# EAGLE library part LPC55S14JBD64E (library LPC55S14JBD64E)
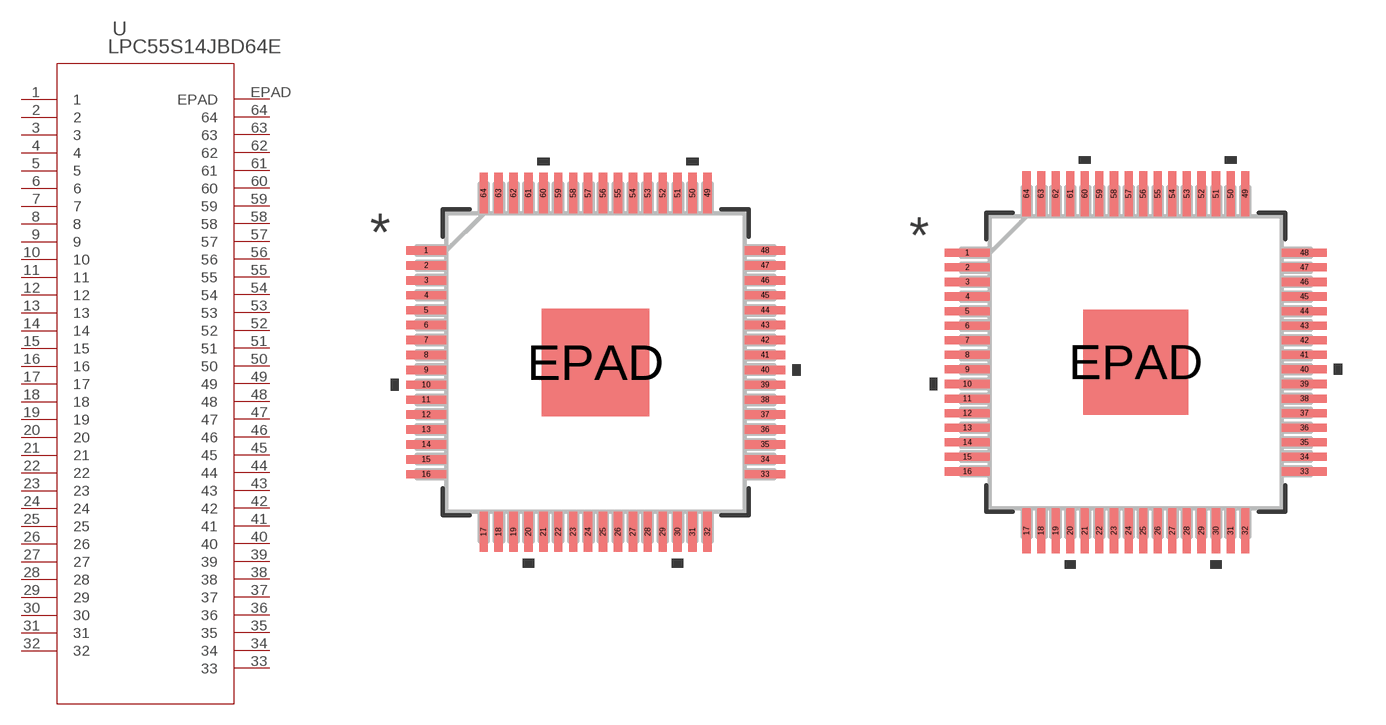
[diagram p0: symbol with the pads of HTQFP64_10X10_NXP; footprints HTQFP64_10X10_NXP, HTQFP64_10X10_NXP-M]

Designator prefix U

## LPC55S14JBD64E (COPYRIGHT: Copyright (C) 2021 Ultra Librarian. All rights reserved.; MANUFACTURER_PART_NUMBER: LPC55S14JBD64E; MFR_NAME: NXP)  [HTQFP64_10X10_NXP]
1  1  pas
2  2  pas
3  3  pas
4  4  pas
5  5  pas
6  6  pas
7  7  pas
8  8  pas
9  9  pas
10  10  pas
11  11  pas
12  12  pas
13  13  pas
14  14  pas
15  15  pas
16  16  pas
17  17  pas
18  18  pas
19  19  pas
20  20  pas
21  21  pas
22  22  pas
23  23  pas
24  24  pas
25  25  pas
26  26  pas
27  27  pas
28  28  pas
29  29  pas
30  30  pas
31  31  pas
32  32  pas
33  33  pas
34  34  pas
35  35  pas
36  36  pas
37  37  pas
38  38  pas
39  39  pas
40  40  pas
41  41  pas
42  42  pas
43  43  pas
44  44  pas
45  45  pas
46  46  pas
47  47  pas
48  48  pas
49  49  pas
50  50  pas
51  51  pas
52  52  pas
53  53  pas
54  54  pas
55  55  pas
56  56  pas
57  57  pas
58  58  pas
59  59  pas
60  60  pas
61  61  pas
62  62  pas
63  63  pas
64  64  pas
EPAD  EPAD  pas

## LPC55S14JBD64EHTQFP64_10X10_NXP-M (COPYRIGHT: Copyright (C) 2021 Ultra Librarian. All rights reserved.; MANUFACTURER_PART_NUMBER: LPC55S14JBD64E; MFR_NAME: NXP)  [HTQFP64_10X10_NXP-M]
Pads as for HTQFP64_10X10_NXP

## LPC55S14JBD64EHTQFP64_10X10_NXP-L (COPYRIGHT: Copyright (C) 2021 Ultra Librarian. All rights reserved.; MANUFACTURER_PART_NUMBER: LPC55S14JBD64E; MFR_NAME: NXP)  [HTQFP64_10X10_NXP-L]
Pads as for HTQFP64_10X10_NXP

## Footprint HTQFP64_10X10_NXP (pad centres in mm)
smd 1.346 x 0.279: 1 -5.677,3.75; 2 -5.677,3.25; 3 -5.677,2.75; 4 -5.677,2.25; 5 -5.677,1.75; 6 -5.677,1.25; 7 -5.677,0.75; 8 -5.677,0.25; 9 -5.677,-0.25; 10 -5.677,-0.75; 11 -5.677,-1.25; 12 -5.677,-1.75; 13 -5.677,-2.25; 14 -5.677,-2.75; 15 -5.677,-3.25; 16 -5.677,-3.75; 33 5.677,-3.75; 34 5.677,-3.25; 35 5.677,-2.75; 36 5.677,-2.25; 37 5.677,-1.75; 38 5.677,-1.25; 39 5.677,-0.75; 40 5.677,-0.25; 41 5.677,0.25; 42 5.677,0.75; 43 5.677,1.25; 44 5.677,1.75; 45 5.677,2.25; 46 5.677,2.75; 47 5.677,3.25; 48 5.677,3.75
smd 0.279 x 1.346: 17 -3.75,-5.677; 18 -3.25,-5.677; 19 -2.75,-5.677; 20 -2.25,-5.677; 21 -1.75,-5.677; 22 -1.25,-5.677; 23 -0.75,-5.677; 24 -0.25,-5.677; 25 0.25,-5.677; 26 0.75,-5.677; 27 1.25,-5.677; 28 1.75,-5.677; 29 2.25,-5.677; 30 2.75,-5.677; 31 3.25,-5.677; 32 3.75,-5.677; 49 3.75,5.677; 50 3.25,5.677; 51 2.75,5.677; 52 2.25,5.677; 53 1.75,5.677; 54 1.25,5.677; 55 0.75,5.677; 56 0.25,5.677; 57 -0.25,5.677; 58 -0.75,5.677; 59 -1.25,5.677; 60 -1.75,5.677; 61 -2.25,5.677; 62 -2.75,5.677; 63 -3.25,5.677; 64 -3.75,5.677
smd 3.607 x 3.607: EPAD 0,0

## Footprint HTQFP64_10X10_NXP-M (pad centres in mm)
smd 1.549 x 0.279: 1 -5.779,3.75; 2 -5.779,3.25; 3 -5.779,2.75; 4 -5.779,2.25; 5 -5.779,1.75; 6 -5.779,1.25; 7 -5.779,0.75; 8 -5.779,0.25; 9 -5.779,-0.25; 10 -5.779,-0.75; 11 -5.779,-1.25; 12 -5.779,-1.75; 13 -5.779,-2.25; 14 -5.779,-2.75; 15 -5.779,-3.25; 16 -5.779,-3.75; 33 5.779,-3.75; 34 5.779,-3.25; 35 5.779,-2.75; 36 5.779,-2.25; 37 5.779,-1.75; 38 5.779,-1.25; 39 5.779,-0.75; 40 5.779,-0.25; 41 5.779,0.25; 42 5.779,0.75; 43 5.779,1.25; 44 5.779,1.75; 45 5.779,2.25; 46 5.779,2.75; 47 5.779,3.25; 48 5.779,3.75
smd 0.279 x 1.549: 17 -3.75,-5.779; 18 -3.25,-5.779; 19 -2.75,-5.779; 20 -2.25,-5.779; 21 -1.75,-5.779; 22 -1.25,-5.779; 23 -0.75,-5.779; 24 -0.25,-5.779; 25 0.25,-5.779; 26 0.75,-5.779; 27 1.25,-5.779; 28 1.75,-5.779; 29 2.25,-5.779; 30 2.75,-5.779; 31 3.25,-5.779; 32 3.75,-5.779; 49 3.75,5.779; 50 3.25,5.779; 51 2.75,5.779; 52 2.25,5.779; 53 1.75,5.779; 54 1.25,5.779; 55 0.75,5.779; 56 0.25,5.779; 57 -0.25,5.779; 58 -0.75,5.779; 59 -1.25,5.779; 60 -1.75,5.779; 61 -2.25,5.779; 62 -2.75,5.779; 63 -3.25,5.779; 64 -3.75,5.779
smd 3.607 x 3.607: EPAD 0,0

## Footprint HTQFP64_10X10_NXP-L (pad centres in mm)
smd 1.143 x 0.229: 1 -5.575,3.75; 2 -5.575,3.25; 3 -5.575,2.75; 4 -5.575,2.25; 5 -5.575,1.75; 6 -5.575,1.25; 7 -5.575,0.75; 8 -5.575,0.25; 9 -5.575,-0.25; 10 -5.575,-0.75; 11 -5.575,-1.25; 12 -5.575,-1.75; 13 -5.575,-2.25; 14 -5.575,-2.75; 15 -5.575,-3.25; 16 -5.575,-3.75; 33 5.575,-3.75; 34 5.575,-3.25; 35 5.575,-2.75; 36 5.575,-2.25; 37 5.575,-1.75; 38 5.575,-1.25; 39 5.575,-0.75; 40 5.575,-0.25; 41 5.575,0.25; 42 5.575,0.75; 43 5.575,1.25; 44 5.575,1.75; 45 5.575,2.25; 46 5.575,2.75; 47 5.575,3.25; 48 5.575,3.75
smd 0.229 x 1.143: 17 -3.75,-5.575; 18 -3.25,-5.575; 19 -2.75,-5.575; 20 -2.25,-5.575; 21 -1.75,-5.575; 22 -1.25,-5.575; 23 -0.75,-5.575; 24 -0.25,-5.575; 25 0.25,-5.575; 26 0.75,-5.575; 27 1.25,-5.575; 28 1.75,-5.575; 29 2.25,-5.575; 30 2.75,-5.575; 31 3.25,-5.575; 32 3.75,-5.575; 49 3.75,5.575; 50 3.25,5.575; 51 2.75,5.575; 52 2.25,5.575; 53 1.75,5.575; 54 1.25,5.575; 55 0.75,5.575; 56 0.25,5.575; 57 -0.25,5.575; 58 -0.75,5.575; 59 -1.25,5.575; 60 -1.75,5.575; 61 -2.25,5.575; 62 -2.75,5.575; 63 -3.25,5.575; 64 -3.75,5.575
smd 3.607 x 3.607: EPAD 0,0